# Altium schematic symbol library YoussifLIB.SchLib: 17 symbols
Pins are listed as number, name and electrical type; pins without a type are passive.

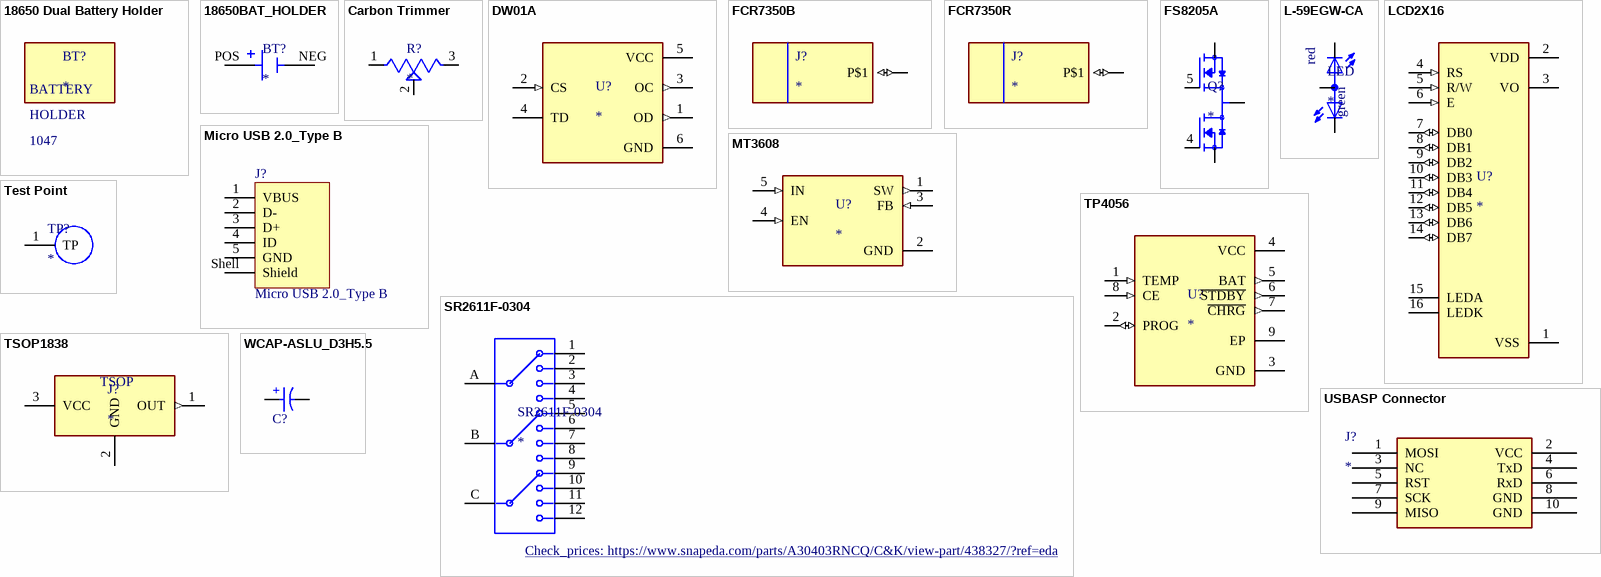
[diagram p0: symbols 18650 Dual Battery Holder to WCAP-ASLU_D3H5.5]

## 18650 Dual Battery Holder
designator BT?
MP: 1047; Package: None; Price: None; Value: *; Availability: Unavailable
footprint BAT_1047
text: BATTERY; HOLDER

## 18650BAT_HOLDER
designator BT?
Battery Holder (Open) 18650 1 Cell PC Pin; MP: BK-18650-PC2; Price: None; Value: *; Package: None; Availability: Unavailable
footprint 18650BAT_HOLDER
pins: NEG, POS

## Carbon Trimmer
designator R?
5 kOhms 0.1W, 1/10W PC Pins Through Hole Trimmer Potentiometer Carbon 1.0 Turn Top Adjustment; MP: 3318F-1-502; MF: Bourns Inc.; Value: *; SnapEDA_Link: https://www.snapeda.com/parts/3318F-1-502/Bourns/view-part/?ref=snap; Purchase-URL: https://pricing.snapeda.com/search/part/3318F-1-502/?ref=eda; Check_prices: https://www.snapeda.com/parts/3318F-1-502/Bourns/view-part/?ref=eda; Availability: In Stock; Price: None; Package: SMD-3 Bourns
footprint TRIM_3318F-1-502
pins: 1 CCW, 2 WIPER, 3 CW

## DW01A
designator U?
One Cell Lithium-ion/Polymer Battery Protection IC; MF: Fortune Semiconductor; MP: DW01A; SnapEDA_Link: https://www.snapeda.com/parts/DW01A/Fortune+Semiconductor/view-part/?ref=snap; Package: SOT-23-6 Fortune Semiconductor; Value: *; Check_prices: https://www.snapeda.com/parts/DW01A/Fortune+Semiconductor/view-part/?ref=eda
footprint SOT95P280X145-6N
pins: 1 OD (out), 2 CS (in), 3 OC (out), 4 TD, 5 VCC (power), 6 GND (power)

## FCR7350B
designator J?
Banana Jack Connector Standard Banana Solder Black; MF: Cliff; MP: FCR7350R; SnapEDA_Link: https://www.snapeda.com/parts/FCR7350R/Cliff+Electronics/view-part/?ref=snap; Package: None; Value: *; Check_prices: https://www.snapeda.com/parts/FCR7350R/Cliff+Electronics/view-part/?ref=eda
footprint FCR7350B
pins: P$1 (io), P$2 P$1 (io), P$3 P$1 (io), P$4 P$1 (io), P$5 P$1 (io)

## FCR7350R
designator J?
Banana Jack Connector Standard Banana Solder Red; MF: Cliff; MP: FCR7350R; SnapEDA_Link: https://www.snapeda.com/parts/FCR7350R/Cliff+Electronics/view-part/?ref=snap; Package: None; Value: *; Check_prices: https://www.snapeda.com/parts/FCR7350R/Cliff+Electronics/view-part/?ref=eda
footprint FCR7350R
pins: P$1 (io), P$2 P$1 (io), P$3 P$1 (io), P$4 P$1 (io), P$5 P$1 (io)

## FS8205A
designator Q?
N/A; MP: FS8205A; MF: Fortune Semiconductor; Value: *; Availability: Not in stock; Package: Package; Price: None; SnapEDA_Link: https://www.snapeda.com/parts/FS8205A/Fortune+Semiconductor/view-part/?ref=snap; Check_prices: https://www.snapeda.com/parts/FS8205A/Fortune+Semiconductor/view-part/?ref=eda
footprint SOP65P640X120-8N
pins: 1 D12, 2 S1, 3 S1, 4 G1, 5 G2, 6 S2, 7 S2, 8 D12

## L-59EGW-CA
designator LED
LED; 5mm; bicolour; red/green; 5mcd; 5mcd; 60Â°; Front: convex; anode; MF: Kingbright; MP: L-59EGW-CA; Package: None; Value: *; Availability: Unavailable; SnapEDA_Link: https://www.snapeda.com/parts/L-59EGW-CA/Kingbright/view-part/885747/?ref=snap; Price: None
footprint L-59EGW-CA
pins: 1 CR, 2 A, 3 CG
text: red; green

## LCD2X16
designator U?
Display; Display: LCD 2x16 characters (blue backlight); Price: None; Value: *; MP: LCD2X16; Package: None; Availability: Unavailable
footprint LCD_LCD2X16
pins: 1 VSS (power), 2 VDD (power), 3 VO, 4 RS (in), 5 R/W (in), 6 E (in), 7 DB0 (io), 8 DB1 (io), 9 DB2 (io), 10 DB3 (io), 11 DB4 (io), 12 DB5 (io), 13 DB6 (io), 14 DB7 (io), 15 LEDA, 16 LEDK

## Micro USB 2.0_Type B
designator J?
NexarPartId: 52645113; Number of Contacts: 5; Contact Resistance: 30mΩ; Voltage Rating: 30V; Current Rating: 3A; USB Standard: USB 2.0; Gender: Receptacle; Insulation Resistance: 1GΩ; Height: 2.86mm; REACH SVHC: Unknown; Connector Type: USB; RoHS: Compliant; Features: Shielded; Termination: SMD/SMT; Number of Pins: 5; Contact Plating: Gold; Packaging: Tape and Reel; Contact Material: Gold; Mount: Horizontal, Surface Mount; Max Operating Temperature: 85°C; Lead Free: Lead Free; Min Operating Temperature: -40°C; Orientation: Horizontal; Operating Supply Voltage: 30V
footprint Micro USB 2.0_Type B (Micro USB 2.0 SMT Type B Horizontal 5 Contacts High Current)
pins: 1 VBUS, 2 D-, 3 D+, 4 ID, 5 GND, Shell Shield

## MT3608
designator U?
High Efficiency 1.2MHz2A Step Up Converter; MP: MT3608; MF: Aerosemi Technology Co., Ltd; Price: None; Availability: Not in stock; Package: Package; Value: *; SnapEDA_Link: https://www.snapeda.com/parts/MT3608/Aerosemi+Technology+Co.%252C+Ltd/view-part/?ref=snap; Check_prices: https://www.snapeda.com/parts/MT3608/Aerosemi+Technology+Co.%252C+Ltd/view-part/?ref=eda
footprint SOT95P280X145-6N
pins: 1 SW (out), 2 GND (power), 3 FB (in), 4 EN (in), 5 IN (in)

## SR2611F-0304
designator SR2611F-0304
Rotary Switch 4 Position 3P4T 2.5A (AC), 350mA (DC) 125VAC Panel Mount, Through Hole; MP: A30403RNCQ; MF: C&K; SnapEDA_Link: https://www.snapeda.com/parts/A30403RNCQ/C&K/view-part/438327/?ref=snap; Availability: Unavailable; Package: None; Price: None; Value: *; Check_prices: https://www.snapeda.com/parts/A30403RNCQ/C&K/view-part/438327/?ref=eda
footprint SW_A30403RNCQ
pins: 1, 2, 3, 4, 5, 6, 7, 8, 9, 10, 11, 12, A, B, C

## Test Point
designator TP?  (no BOM)
footprint Test_Point
pins: 1 TP

## TP4056
designator U?
Complete single cell Li-Ion battery with a constant current / constant voltage linear charger; MF: NanJing Top Power ASIC Corp.; MP: TP4056; Check_prices: https://www.snapeda.com/parts/TP4056/NanJing+Top+Power+ASIC+Corp./view-part/?ref=eda; SnapEDA_Link: https://www.snapeda.com/parts/TP4056/NanJing+Top+Power+ASIC+Corp./view-part/?ref=snap; Price: None; Availability: Not in stock; Package: Package; Value: *
footprint TP4056
pins: 1 TEMP (in), 2 PROG (io), 3 GND (power), 4 VCC (power), 5 BAT (out), 6 ~{STDBY} (out), 7 ~{CHRG} (out), 8 CE (in), 9 EP

## TSOP1838
designator J?
IR Remote Receiver 38KHz 35m 3-Pin; MF: Vishay; MP: TSOP1838; SnapEDA_Link: https://www.snapeda.com/parts/TSOP1838/Vishay/view-part/?ref=snap; Package: None; Value: *; Check_prices: https://www.snapeda.com/parts/TSOP1838/Vishay/view-part/?ref=eda
footprint TSOP1838
pins: 1 OUT (out), 2 GND (power), 3 VCC (power)
text: TSOP

## USBASP Connector
designator J?
Connector; Manufacturer_Name: Molex; Manufacturer_Part_Number: 70246-1001; Datasheet Link: http://www.molex.com/pdm_docs/sd/702461001_sd.pdf; Height: 9.27mm; Mouser Part Number: 538-70246-1001; Mouser Price/Stock: https://www.mouser.co.uk/ProductDetail/Molex/70246-1001?qs=L7RdmAxh%252BcP9d7Ope9dnAA%3D%3D
footprint SHDR10W99P254_2X5_2032X889X927P
pins: 1 MOSI, 2 VCC, 3 NC, 4 TxD, 5 RST, 6 RxD, 7 SCK, 8 GND, 9 MISO, 10 GND

## WCAP-ASLU_D3H5.5
designator C?, comment 10uF  (value not drawn)
WCAP-ASLU Aluminum Electrolytic Capacitor, V-Chip, D4 x H5.5mm, 10uF, 6.3V; Manufacturer Part Number: 865090140001; Manufacturer: Wurth Elektronik; Capacitance Tolerance: +/-20%; Dissipation Factor: 26%; Endurance: 1000h; Leakage Current: 0.4uA; Ripple Current: 15mA; Technical Reference: ASBB055100M6R3DVCTAA000; Category: Aluminum Electrolytic Capacitors; Match Code: WCAP-ASLU; ComponentLink1Description: Website Link; ComponentLink1URL: https://www.we-online.com/redexpert/article/865090140001?ad; ComponentLink2Description: Datasheet Link; ComponentLink2URL: https://www.we-online.com/redexpert/spec/865090140001?ad; Mount: Surface Mount; Operating Temperature Max: 85°C; Operating Temperature Min: -40°C; Packaging: Tape and Reel; Height: 5.5mm; Diameter: 4mm; Capacitance: 10uF; Rated Voltage (DC): 6.3V
footprint WCAP-ASLU_D3H5.5 (Aluminum Electrolytic Capacitors, body diameter 3mm)
pins: 1 P, 2 N
text: +